# Altium footprint library 2019-03-19_07-38-36.PcbLib: 1 footprints
Each footprint in its own frame and in the unit in brackets; x right, y up, seen from the top. Pads: shape width x height; smd on the part's side, far side on the other; paste and mask are expansions set on the pad; w line width, h text height; cw(c..) or ccw(c..) is an arc to the next point about the centre after c.
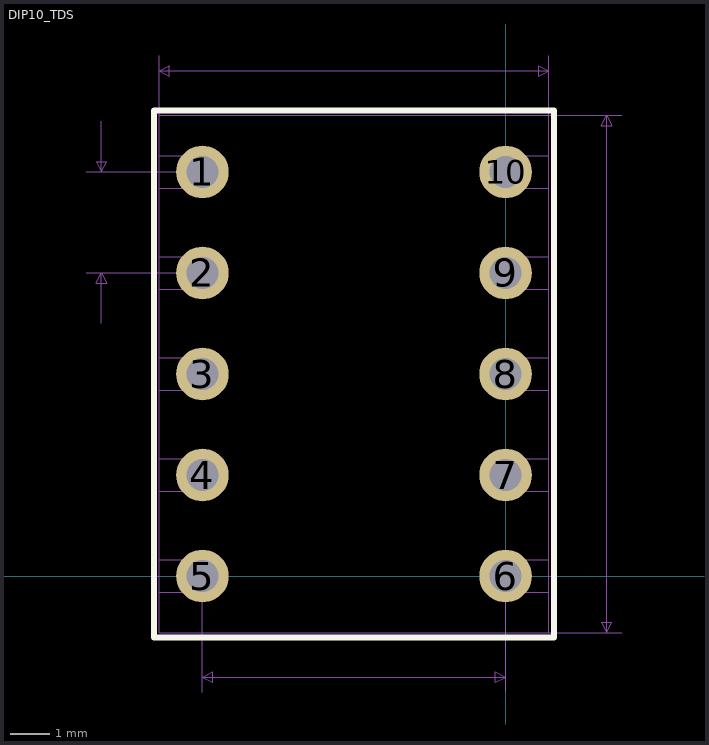
[diagram p0: the footprint, top view; thin cyan lines are the x and y axes]

## DIP10_TDS [mil]
pads (10):
  round 52 hole 32 mask+0: 1(-300,400) 2(-300,300) 3(-300,200) 4(-300,100) 5(-300,0) 6(0,0) 7(0,100) 8(0,200) 9(0,300) 10(0,400)
Top Overlay:
  lines w6: -348,-61 -348,461 48,461 48,-61 -348,-61
Mechanical 7:
  lines w1: -415,300 -300,300 ; -415,400 -300,400 ; -400,250 -400,300 ; -400,450 -400,400 ; -343,0 -343,515 ; -300,-115 -300,0 ; -150,-56 115,-56 ; -150,456 115,456 ; 0,-115 0,0 ; 43,0 43,515 ; -400,300 -395,290 -405,290 -400,300 ; -400,400 -395,410 -405,410 -400,400 ; -343,500 -333,495 -333,505 -343,500 ; -343,500 43,500 ; -300,-100 -290,-105 -290,-95 -300,-100 ; -300,-100 0,-100 ; 0,-100 -10,-105 -10,-95 0,-100 ; 43,500 33,495 33,505 43,500 ; 100,-56 105,-46 95,-46 100,-56 ; 100,-56 100,456 ; 100,456 105,446 95,446 100,456
  text "0.512in/13.005mm" at 120,187.5 h25
  text "0.386in/9.804mm" at -243.75,520 h25
  text "0.3in/7.62mm" at -225,-145 h25
  text "0.1in/2.54mm" at -570,337.5 h25
  text "Alt 2 Padstyle: b229_152h76" at -487.5,-476 h50
  text "Alt 1 Padstyle: b152_229h76" at -487.5,-426 h50
  text "Default Padstyle: c132h81" at -462.5,-276 h50
Mechanical 13:
  lines w1: -343,-56 -343,456 43,456 43,-56 -343,-56 ; -343,-16 -316,-16 -316,16 -343,16 -343,-16 ; -343,84 -316,84 -316,116 -343,116 -343,84 ; -343,184 -316,184 -316,216 -343,216 -343,184 ; -343,284 -316,284 -316,316 -343,316 -343,284 ; -343,384 -316,384 -316,416 -343,416 -343,384 ; 16,-16 16,16 43,16 43,-16 16,-16 ; 16,84 16,116 43,116 43,84 16,84 ; 16,184 16,216 43,216 43,184 16,184 ; 16,284 16,316 43,316 43,284 16,284 ; 16,384 16,416 43,416 43,384 16,384
3D body: height 10, standoff 0, extent 0,0 10,10